# Altium footprint library USBLC6-2P6.PcbLib: 1 footprints
Each footprint in its own frame and in the unit in brackets; x right, y up, seen from the top. Pads: shape width x height; smd on the part's side, far side on the other; paste and mask are expansions set on the pad; w line width, h text height; cw(c..) or ccw(c..) is an arc to the next point about the centre after c.
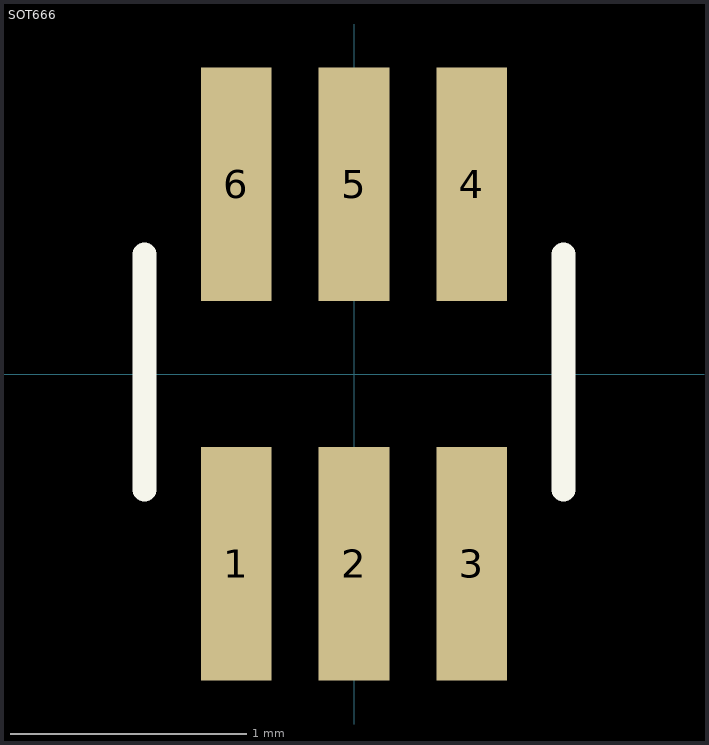
[diagram p0: the footprint, top view; thin cyan lines are the x and y axes]

## SOT666 [mm]
pads (6):
  rect 0.3x0.99 smd mask-2539.97: 1(-0.5,-0.805) 2(0,-0.805) 3(0.5,-0.805) 4(0.5,0.805) 5(0,0.805) 6(-0.5,0.805)
Top Overlay:
  lines w0.1: -0.889,-0.492 -0.889,0.508 ; 0.889,-0.492 0.889,0.508
Top Solder:
  region: -0.2,-1.35 -0.2,-0.26 0.2,-0.26 0.2,-1.35
  region: -0.7,0.26 -0.7,1.35 -0.3,1.35 -0.3,0.26
  region: 0.3,0.26 0.3,1.35 0.7,1.35 0.7,0.26
  region: -0.2,0.26 -0.2,1.35 0.2,1.35 0.2,0.26
  region: -0.7,-1.35 -0.7,-0.26 -0.3,-0.26 -0.3,-1.35
  region: 0.3,-1.35 0.3,-0.26 0.7,-0.26 0.7,-1.35
3D body "SOT-666.step": height 0.55, standoff 0, extent -0.8,-0.8 0.8,0.8